# EAGLE library part DIN6-F-J (library joakim)
Female CONNECTOR 6 pins with shield, horizontal (DIN 45322) NS is without screw holes
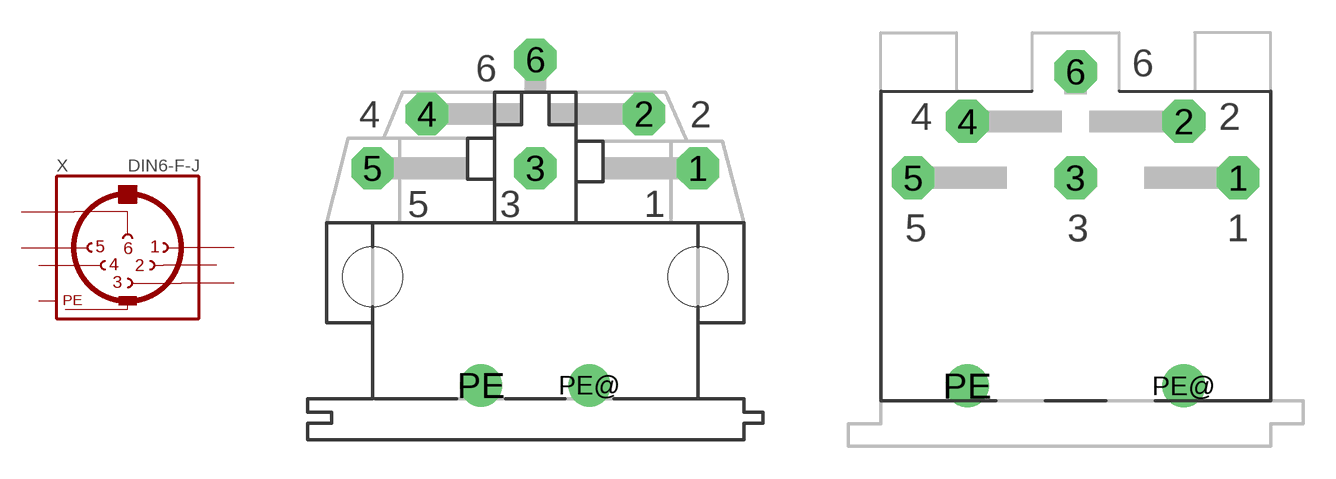
[diagram p43: symbol with the pads of MAB6H-J; footprints MAB6H-J, KDJ01-6-J]

Designator prefix X

## DIN6-F-J (MF: FARNELL; MPN: MAB 6 H; OC_FARNELL: 809901; OC_NEWARK: 67C7887)  [MAB6H-J]
1  1  pas
2  2  pas
3  3  pas
4  4  pas
5  5  pas
6  6  pas
PE  PE  pwr
PE@  PE  pwr

## DIN6-F-JKD  [KDJ01-6-J]
Pads as for MAB6H-J

## DIN6-F-JNS  [MAB6H-NO-SCREWS-J]
Pads as for MAB6H-J

## Footprint MAB6H-J (pad centres in mm)
Female CONNECTOR 6 pins with shield, horizontal (DIN 45322)
drill 1.321 octagon: 1 7.62,5.08; 2 5.08,7.62; 3 0,5.08; 4 -5.08,7.62; 5 -7.62,5.08; 6 0,10.16
drill 1.321: PE -2.54,-5.08; PE@ 2.54,-5.08
hole 2.794 at 7.62,0
hole 2.794 at -7.62,0

## Footprint KDJ01-6-J (pad centres in mm)
drill 1.321 octagon: 1 7.5,12.4; 2 5,15; 3 0,12.4; 4 -5,15; 5 -7.5,12.4; 6 0,17.3
drill 1.321: PE -5,2.8; PE@ 5,2.8

## Footprint MAB6H-NO-SCREWS-J (pad centres in mm)
drill 1.321 octagon: 1 7.62,5.08; 2 5.08,7.62; 3 0,5.08; 4 -5.08,7.62; 5 -7.62,5.08; 6 0,10.16
drill 1.321: PE -2.54,-5.08; PE@ 2.54,-5.08